# Altium schematic symbol library InverterSchLib.SchLib: 5 symbols
Pins are listed as number, name and electrical type; pins without a type are passive.

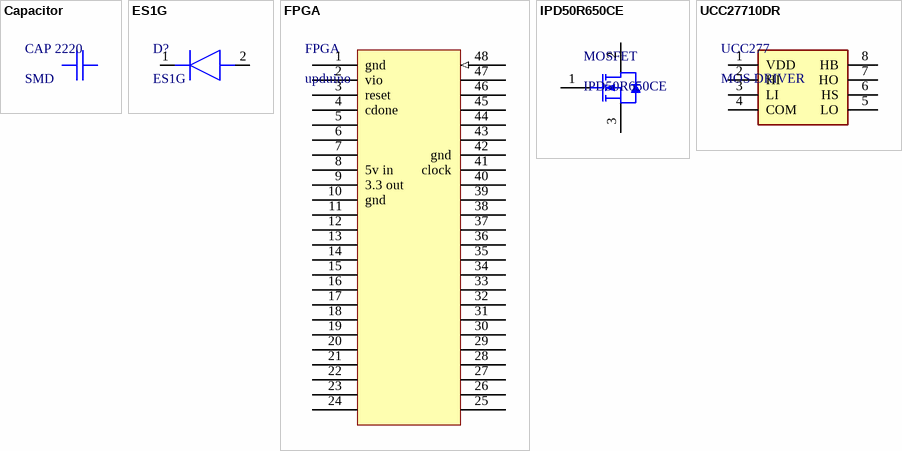
[diagram p0: symbols Capacitor to UCC27710DR]

## Capacitor
designator CAP 2220, comment SMD
22-20 SMD
footprint Capacitor 22-20
pins: 1 (power), 2

## ES1G
designator D?
Diode; Manufacturer_Name: onsemi; Datasheet Link: https://www.onsemi.com/pdf/datasheet/es1j-d.pdf; Height: 2.6mm; Manufacturer_Part_Number: ES1G; Mouser Part Number: 512-ES1G; Mouser Price/Stock: https://www.mouser.co.uk/ProductDetail/onsemi-Fairchild/ES1G?qs=ZaZfTJZxipjU7h0zd5PGAw%3D%3D; Arrow Part Number: ES1G; Arrow Price/Stock: https://www.arrow.com/en/products/es1g/on-semiconductor?region=europe
footprint DIOM5227X260N
pins: 1 K, 2 A

## FPGA
designator FPGA, comment upduino
upduino v3.0
footprint FPGA
pins: 1 gnd, 2 vio, 3 reset, 4 cdone, 5, 6, 7, 8 5v in, 9 3.3 out, 10 gnd, 11, 12, 13, 14, 15, 16, 17, 18, 19, 20, 21, 22, 23, 24, 25, 26, 27, 28, 29, 30, 31, 32, 33, 34, 35, 36, 37, 38, 39, 40, 41 clock, 42 gnd, 43, 44, 45, 46, 47, 48 (in)

## IPD50R650CE
designator MOSFET
N-Channel CoolMOS CE Power-Transistor, 500 V VDS, 6.1 A ID, -55 to 150 degC, PG-TO252-3-313, Reel, Green; Manufacturer: Infineon; Polarity: N; VGS(th) (min): 2.5Â V; RthJA (max): 62Â K/W; RDS (on) (max): 650Â mOhm; VGS(th) (max): 3.5Â V; VDS (max): 500Â V; Green: TRUE; ID (max): 6.1Â A; IDpuls (max): 19Â A; Ptot (max): 47Â W; Rth: 2.67Â K/W; QG: 15Â nC; PackageReference: PG-TO252-3-313; PartNumber: IPD50R650CE; ComponentLink1Description: Manufacturer URL; ComponentLink2Description: Datasheet; DatasheetVersion: Rev. 2.0; ComponentLink3URL: http://www.infineon.com/dgdl/PG-TO252-3-313-Package_Overview.pdf?folderId=db3a30432b57a660012b81890ade72d2&fileId=db3a30432b57a660012b8193af2872eb; ComponentLink1URL: http://www.infineon.com/; Packing: Reel; ComponentLink2URL: http://www.infineon.com/dgdl/IPD50R650CE+2.0.pdf?folderId=db3a3043156fd5730115c736bcc70ff2&fileId=db3a304339d29c450139d41341a202a1; ComponentLink3Description: Package Specification; PackageVersion: Oct-10; PackageDescription: 3-Pin Plastic (Green) Transistor Single Outline Package, 6.5 x 6.12 mm Body, 2.28 mm Pitch; RthJC (max): 2.67Â K/W; Mounting Technology: Surface Mount; Technology: CoolMOS CE
footprint INF-PG-TO252-3-313_L (DPAK, 3-Leads, Body 6.5x6.12mm, Pitch 2.28mm, IPC High Density)
footprint INF-PG-TO252-3-313_M - duplicate (DPAK, 3-Leads, Body 6.5x6.12mm, Pitch 2.28mm, IPC Low Density)
footprint INF-PG-TO252-3-313_N (DPAK, 3-Leads, Body 6.5x6.12mm, Pitch 2.28mm, IPC Medium Density)
pins: 1 GATE, 2 DRAIN, 3 SOURCE

## UCC27710DR
designator UCC277, comment MOS DRIVER
Integrated Circuit; Manufacturer_Name: Texas Instruments; Manufacturer_Part_Number: UCC27710DR; Datasheet Link: http://www.ti.com/lit/ds/symlink/ucc27710.pdf; Height: 1.75mm; Mouser Part Number: 595-UCC27710DR; Mouser Price/Stock: https://www.mouser.co.uk/ProductDetail/Texas-Instruments/UCC27710DR?qs=BZBei1rCqCDAngQ98G5hRA%3D%3D; Arrow Part Number: UCC27710DR; Arrow Price/Stock: https://www.arrow.com/en/products/ucc27710dr/texas-instruments?region=nac
footprint UCC27710DR
pins: 1 VDD, 2 HI, 3 LI, 4 COM, 5 LO, 6 HS, 7 HO, 8 HB